# EAGLE library part 346950101 (library 911_circuits)
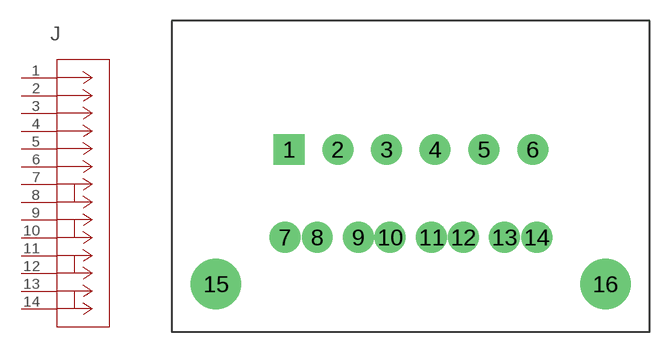
[diagram p3: symbol with the pads of CONN_34695-0101_MOL; footprint CONN_34695-0101_MOL]

Designator prefix J

## 346950101 (COPYRIGHT: Copyright (C) 2024 Ultra Librarian. All rights reserved.; MANUFACTURER_PART_NUMBER: 346950101; MFR_NAME: Molex Connector Corporation)  [CONN_34695-0101_MOL]
1  1  pas
2  2  pas
3  3  pas
4  4  pas
5  5  pas
6  6  pas
7  7  pas
8  8  pas
9  9  pas
10  10  pas
11  11  pas
12  12  pas
13  13  pas
14  14  pas

## Footprint CONN_34695-0101_MOL (pad centres in mm)
drill 1.48 pad 2.057 square: 1 -7.62,0
drill 1.48 pad 2.057: 2 -4.115,0; 3 -0.61,0; 4 2.87,0; 5 6.375,0; 6 9.881,0; 7 -7.899,-6.299; 8 -5.588,-6.299; 9 -2.642,-6.299; 10 -0.356,-6.299; 11 2.616,-6.299; 12 4.902,-6.299; 13 7.849,-6.299; 14 10.16,-6.299
drill 2.6 pad 2.6: 15 -12.852,-9.652; 16 15.088,-9.652